# Altium footprint library UKU205.PcbLib: 41 footprints (part 3 of 3)
Each footprint in its own frame and in the unit in brackets; x right, y up, seen from the top. Pads: shape width x height; smd on the part's side, far side on the other; paste and mask are expansions set on the pad; w line width, h text height; cw(c..) or ccw(c..) is an arc to the next point about the centre after c.
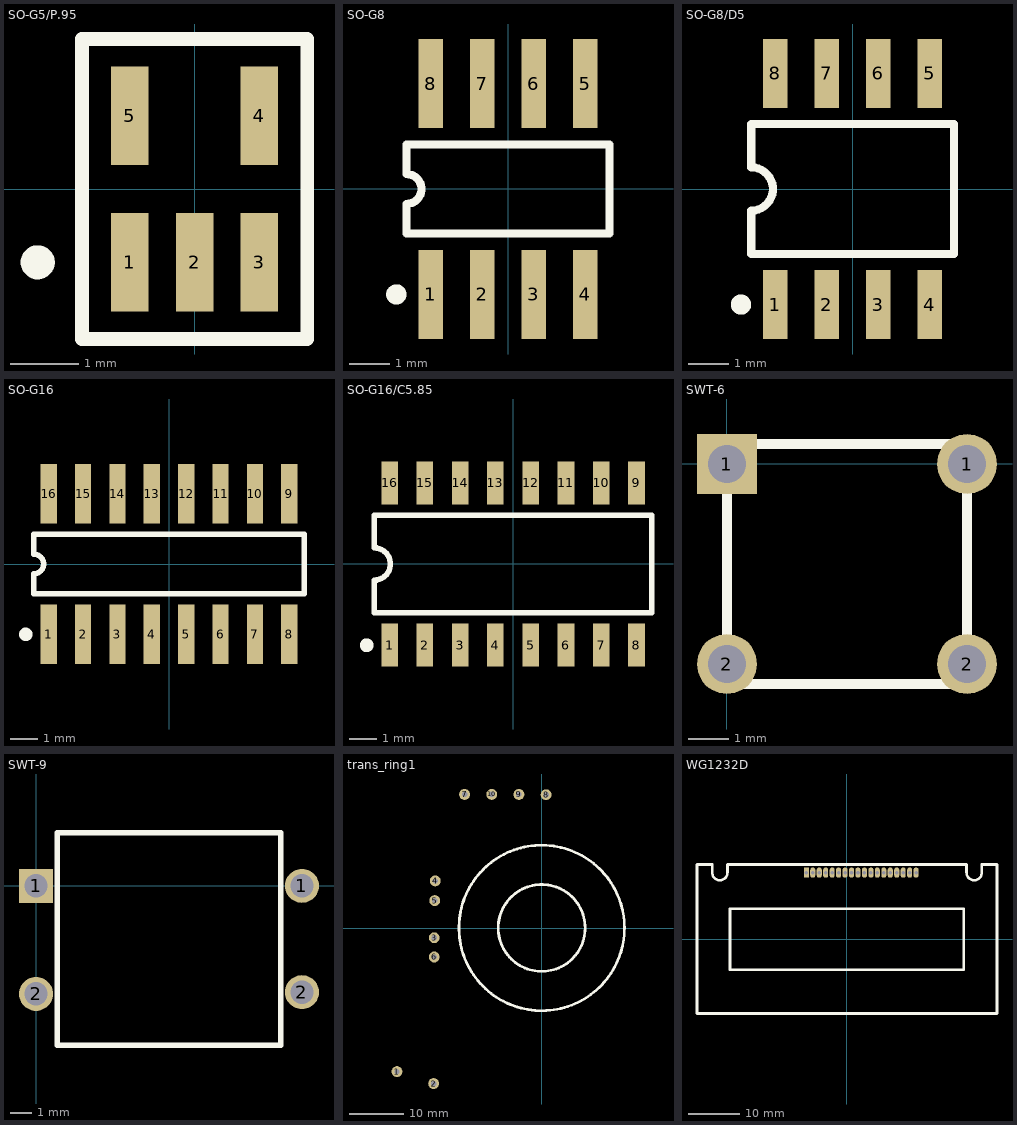
[diagram p2: the footprints below, top view; thin cyan lines are the x and y axes]

## SO-G5/P.95 [mm]
pads (5):
  rect 0.55x1.45 smd: 1(-0.953,-1.069) 2(-0.003,-1.069) 3(0.947,-1.069) 4(0.947,1.081) 5(-0.953,1.081)
Top Overlay:
  circle w0.25: c-2.303,-1.069 r0.125
  lines w0.2: -1.653,-2.194 1.647,-2.194 1.647,2.206 -1.653,2.206 -1.653,-2.194

## SO-G8 [mm]
pads (8):
  rect 0.6x2.2 smd: 1(-1.914,-2.61) 2(-0.644,-2.61) 3(0.626,-2.61) 4(1.896,-2.61) 5(1.896,2.59) 6(0.626,2.59) 7(-0.644,2.59) 8(-1.914,2.59)
Top Overlay:
  circle w0.25: c-2.764,-2.61 r0.125
  lines w0.2: -2.509,-1.11 2.491,-1.11 2.491,1.09 -2.509,1.09 -2.509,0.357 cw(c-2.509,-0.01) -2.509,-0.377 -2.509,-1.11

## SO-G8/D5 [mm]
pads (8):
  rect 0.6x1.7 smd: 1(-1.91,-2.846) 2(-0.64,-2.846) 3(0.63,-2.846) 4(1.9,-2.846) 5(1.9,2.854) 6(0.63,2.854) 7(-0.64,2.854) 8(-1.91,2.854)
Top Overlay:
  circle w0.25: c-2.76,-2.846 r0.125
  lines w0.2: -2.505,-1.596 2.495,-1.596 2.495,1.604 -2.505,1.604 -2.505,0.538 cw(c-2.505,0.004) -2.505,-0.529 -2.505,-1.596

## SO-G16 [mm]
pads (16):
  rect 0.6x2.2 smd: 1(-4.463,-2.588) 2(-3.193,-2.588) 3(-1.923,-2.588) 4(-0.653,-2.588) 5(0.617,-2.588) 6(1.887,-2.588) 7(3.157,-2.588) 8(4.427,-2.588) 9(4.427,2.612) 10(3.157,2.612) 11(1.887,2.612) 12(0.617,2.612) 13(-0.653,2.612) 14(-1.923,2.612) 15(-3.193,2.612) 16(-4.463,2.612)
Top Overlay:
  circle w0.25: c-5.313,-2.588 r0.125
  lines w0.2: -5.018,-1.088 4.982,-1.088 4.982,1.112 -5.018,1.112 -5.018,0.378 cw(c-5.018,0.012) -5.018,-0.355 -5.018,-1.088

## SO-G16/C5.85 [mm]
pads (16):
  rect 0.6x1.55 smd: 1(-4.449,-2.931) 2(-3.179,-2.931) 3(-1.909,-2.931) 4(-0.639,-2.931) 5(0.631,-2.931) 6(1.901,-2.931) 7(3.171,-2.931) 8(4.441,-2.931) 9(4.441,2.919) 10(3.171,2.919) 11(1.901,2.919) 12(0.631,2.919) 13(-0.639,2.919) 14(-1.909,2.919) 15(-3.179,2.919) 16(-4.449,2.919)
Top Overlay:
  circle w0.25: c-5.274,-2.931 r0.125
  lines w0.2: -5.004,-1.756 -5.004,-0.589 ccw(c-5.004,-0.006) -5.004,0.578 -5.004,1.744 4.996,1.744 4.996,-1.756 -5.004,-1.756

## SWT-6 [mm]
pads (4):
  rect 1.5x1.5 hole 0.95: 1(0,-0.007)
  round 1.5 hole 0.95: 1(6,-0.007) 2(0,-5.007) 2(6,-5.007)
Top Overlay:
  lines w0.254: 0,-5.507 0,0.493 6,0.493 6,-5.507 0,-5.507

## SWT-9 [mm]
pads (4):
  rect 1.6x1.6 hole 1.1: 1(-0.002,0.004)
  round 1.6 hole 1.1: 1(12.498,0.004) 2(-0.002,-5.076) 2(12.498,-4.996)
Top Overlay:
  lines w0.254: 0.998,-7.496 11.498,-7.496 11.498,2.504 0.998,2.504 0.998,-7.496

## trans_ring1 [mm]
pads (10):
  round 2 hole 1: 1(-26.654,-26.449) 2(-19.904,-28.649) 3(-19.804,-1.788) 4(-19.604,8.662) 5(-19.704,5.062) 6(-19.804,-5.338) 8(0.796,24.551) 9(-4.204,24.601) 10(-9.204,24.601)
  round 2 hole 1 unplated: 7(-14.204,24.601)
Top Overlay:
  circle w0.5: c-0.004,0.012 r15.24
  circle w0.5: c-0.004,0.012 r8.001

## WG1232D [mm]
pads (18):
  rect 1x2 hole 0.7: 1(-7.993,13.07)
  oval 1x2 hole 0.7: 2(-6.723,13.07) 3(-5.453,13.07) 4(-4.183,13.07) 5(-2.913,13.07) 6(-1.643,13.07) 7(-0.373,13.07) 8(0.897,13.07) 9(2.167,13.07) 10(3.437,13.07) 11(4.707,13.07) 12(5.977,13.07) 13(7.247,13.07) 14(8.517,13.07) 15(9.787,13.07) 16(11.057,13.07) 17(12.327,13.07) 18(13.587,13.07)
Top Overlay:
  lines w0.48: -26.493,13.07 ccw(c-24.993,13.07) -23.493,13.07 ; 23.507,13.07 ccw(c25.007,13.07) 26.507,13.07
  lines w0.5: -26.518,13.095 -26.518,14.645 ; -26.518,14.67 -29.493,14.67 -29.493,-14.63 29.507,-14.63 29.507,14.67 26.532,14.67 ; -23.493,13.12 -23.493,14.67 23.507,14.67 23.507,13.12 ; 26.532,13.095 26.532,14.645 ; -23.003,-6.005 22.997,-6.005 22.997,5.995 -23.003,5.995 -23.003,-6.005